# Altium footprint library QUTMS_PowerSupplyLibrary.PcbLib: 5 footprints
Each footprint in its own frame and in the unit in brackets; x right, y up, seen from the top. Pads: shape width x height; smd on the part's side, far side on the other; paste and mask are expansions set on the pad; w line width, h text height; cw(c..) or ccw(c..) is an arc to the next point about the centre after c.
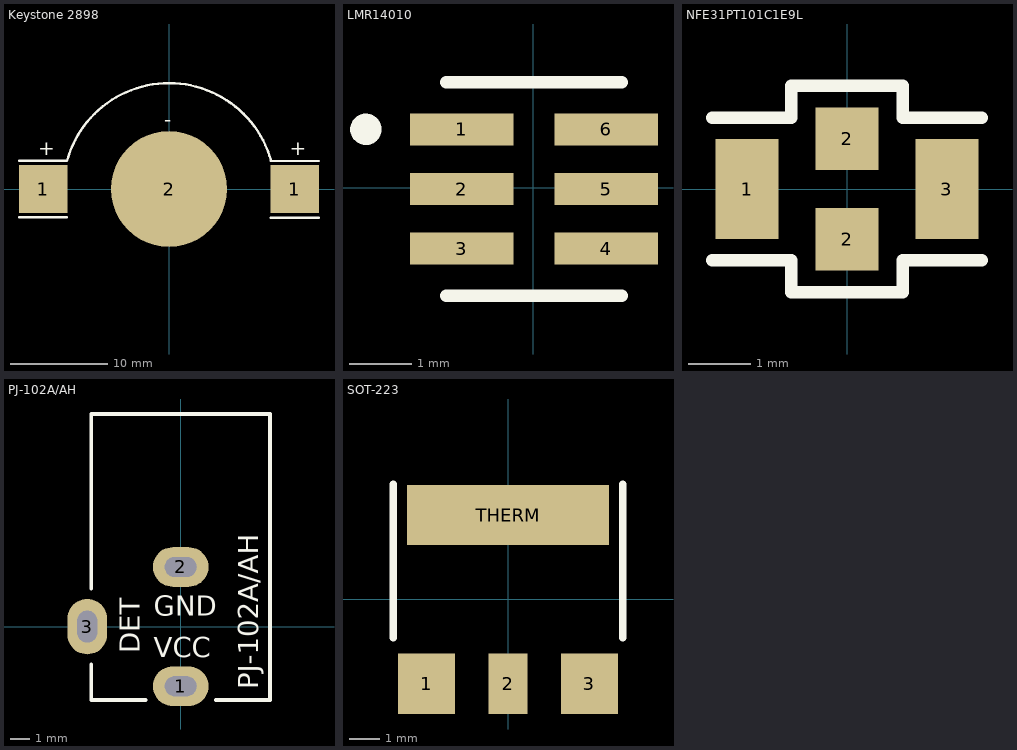
[diagram p0: the footprints below, top view; thin cyan lines are the x and y axes]

## Keystone 2898 [mm]
pads (3):
  rect 5x5 smd: 1(-13,0) 1(13,0)
  round 12 smd mask+4: 2(0,0)
Top Overlay:
  lines w0.254: -15.494,-2.921 -10.541,-2.921 ; -15.494,2.921 -10.541,2.921 cw(c0,0) 10.547,2.898 ; 10.534,-2.947 15.487,-2.947 ; 10.534,2.895 15.487,2.895
  text "+" at -13.508,3.5 h1.52
  text "+" at 12.492,3.5 h1.52
  text "-" at -0.508,6.492 h1.52
3D body "keystone-PN2898.STEP": height 3.35, standoff -0.05, extent -15.367,-10.434 15.367,9.144

## LMR14010 [mil]
pads (6):
  rect 65x20 smd: 1(-44.73,36.75) 2(-44.73,-0.65) 3(-44.73,-38.05) 4(45.84,-38.05) 5(45.84,-0.65) 6(45.84,36.75)
Top Overlay:
  circle w9.84: c-104.86,36.75 r4.92
  lines w7.87: -54.56,-67.58 55.67,-67.58 ; -54.56,66.28 55.67,66.28
3D body "IC_Texas_Instruments_LMR14010ADDCR_eec.STEP": height 43.35, standoff 0, extent -54.56,-57.74 55.68,56.44

## NFE31PT101C1E9L [mm]
pads (4):
  rect 1x1.6 smd: 1(-1.6,0) 3(1.6,0)
  rect 1x1 smd: 2(0,-0.8) 2(0,0.8)
Top Overlay:
  lines w0.2: -2.159,-1.143 -0.889,-1.143 -0.889,-1.651 0.889,-1.651 0.889,-1.143 2.159,-1.143 ; -2.159,1.143 -0.889,1.143 -0.889,1.651 0.889,1.651 0.889,1.143 2.159,1.143
3D body "NFE31PT101C1E9L.STEP": height 1.61, standoff 0.01, extent -1.6,-0.889 1.6,0.861

## PJ-102A/AH [mm]
pads (3):
  oval 2.8x2 hole 1 slot 1.6 at 0 deg: 1(0,-3) 2(0,3)
  oval 2x2.8 hole 1 slot 1.6 at 90 deg: 3(-4.7,0)
Top Overlay:
  lines w0.2: -4.5,-1.905 -4.5,-3.7 -1.778,-3.7 ; -4.5,1.905 -4.5,10.7 4.5,10.7 4.5,-3.7 1.778,-3.7
  text "DET" at -2.057,-1.354 h1.02
  text "GND" at -1.354,0.533 h1.02
  text "VCC" at -1.354,-1.549 h1.02
  text "PJ-102A/AH" at 3.912,-3.15 h1.02
Bottom Overlay:
  lines w0.2: -4.5,-1.905 -4.5,-3.7 -1.778,-3.7 ; -4.5,1.905 -4.5,10.7 4.5,10.7 4.5,-3.7 1.778,-3.7
  text "GND" at 1.354,0.533 h1.02
  text "DET" at -2.057,1.354 h1.02
  text "VCC" at 1.354,-1.549 h1.02
  text "PJ-102A/AH" at 3.912,6.452 h1.02
3D body "CUI_PJ-102A.STEP": height 11, standoff -3.5, extent -4.9,-3.7 4.5,10.7

## SOT-223 [mm]
pads (4):
  rect 1.9x2 smd: 1(-2.7,-2.8) 3(2.7,-2.8)
  rect 1.3x2 smd: 2(0,-2.8)
  rect 6.7x2 smd: THERM(0,2.8)
Top Overlay:
  lines w0.254: -3.81,-1.27 -3.81,3.81 ; 3.81,-1.27 3.81,3.81
3D body "SOT-223.step": height 1.8, standoff 0, extent -3.15,-3.35 3.15,3.35